# Altium integrated library CRE2512-FZ-R008E-3.IntLib: 1 symbol
Pins are listed as number, name and electrical type; pins without a type are passive.

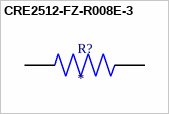
[diagram p0: symbol CRE2512-FZ-R008E-3]

## CRE2512-FZ-R008E-3
designator R?
8 mOhms Â±1% 3W Chip Resistor 2512 (6432 Metric) Automotive AEC-Q200, Current Sense, Moisture Resistant Metal Element; MP: CRE2512-FZ-R008E-3; MF: Bourns; Digi-Key_Part_Number: CRE2512-FZ-R008E-3CT-ND; Check_prices: https://www.snapeda.com/parts/CRE2512-FZ-R008E-3/Bourns/view-part/984047/?ref=eda; Package: 6432 Stackpole; Value: *; SnapEDA_Link: https://www.snapeda.com/parts/CRE2512-FZ-R008E-3/Bourns/view-part/984047/?ref=snap
footprint RESC6432X90N
pins: 1, 2